# EAGLE library part 615012143921 (library 615008185221_Eagle_WR-MJ_rev20b)
WR-MJ Modular Jack THT Horizontal Plastic Dual Port 6P6C Tab Up KIND PROPERTIES Quality Class:500 Mating cycles General Information Operating Temperature:-40 up to +85 °C Compliance: RoHS Electrical Properties IR 1:1.5A Working Voltage:120V (AC) Withstanding Voltage:1000V (AC) Contact Resistance:20mΩ RISO:500 MΩ Material Properties Insulator MateriaL:PBT Insulator Flammability Rating:UL94 V-0 Color:Black Contact Material Copper Alloy Contact Plating:Gold Contact Type:Stamped Packaging Properties Packaging:Tray <https://www.we-online.com/catalog/media/o33115v209%20Family_WR-MC_615012143921.jpg> Details see: https://www.we-online.com/catalog/en/MJ_THT_HORIZONTAL_PLASTIC_DUAL_PORT_6P6C_TAB_UP/? Updated by Yingchun,Shan 2020-01-06 2020 (C) Würth Elektronik
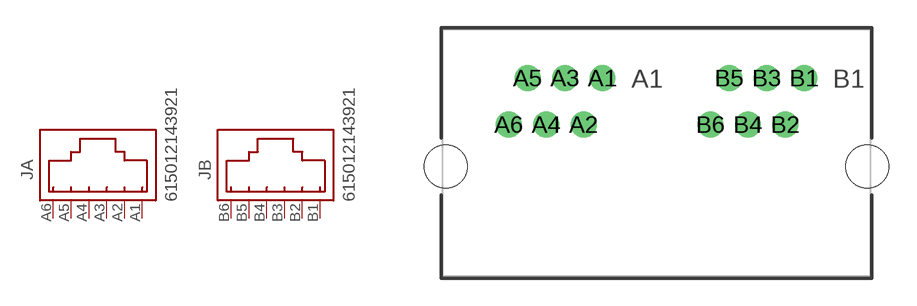
[diagram p38: symbol with the pads of 615012143921; footprint 615012143921]

Designator prefix J; gates A=6P6C B=6P6C

## 615012143921 (DATASHEET-URL: https://www.we-online.com/catalog/datasheet/615012143921.pdf; MOUNT: THT; PART-NUMBER: 615012143921; TYPE: Horizontal; VALUE: 615012143921; XPXC: 6P6C)  [615012143921]
A1  A:1  pas
A2  A:2  pas
A3  A:3  pas
A4  A:4  pas
A5  A:5  pas
A6  A:6  pas
B1  B:1  pas
B2  B:2  pas
B3  B:3  pas
B4  B:4  pas
B5  B:5  pas
B6  B:6  pas

## Footprint 615012143921 (pad centres in mm)
WR-MJ Modular Jack THT Horizontal Plastic Dual Port 6P6C Tab Up,12Pins
drill 0.9: A1 -2.95,4.09; A2 -3.97,1.55; A3 -4.99,4.09; A4 -6.01,1.55; A5 -7.03,4.09; A6 -8.05,1.55; B1 8.05,4.09; B2 7.03,1.55; B3 6.01,4.09; B4 4.99,1.55; B5 3.97,4.09; B6 2.95,1.55
hole 2.36 at -11.5,-0.75
hole 2.36 at 11.5,-0.75